# Altium footprint library Buzzer.PcbLib: 1 footprints
Each footprint in its own frame and in the unit in brackets; x right, y up, seen from the top. Pads: shape width x height; smd on the part's side, far side on the other; paste and mask are expansions set on the pad; w line width, h text height; cw(c..) or ccw(c..) is an arc to the next point about the centre after c.
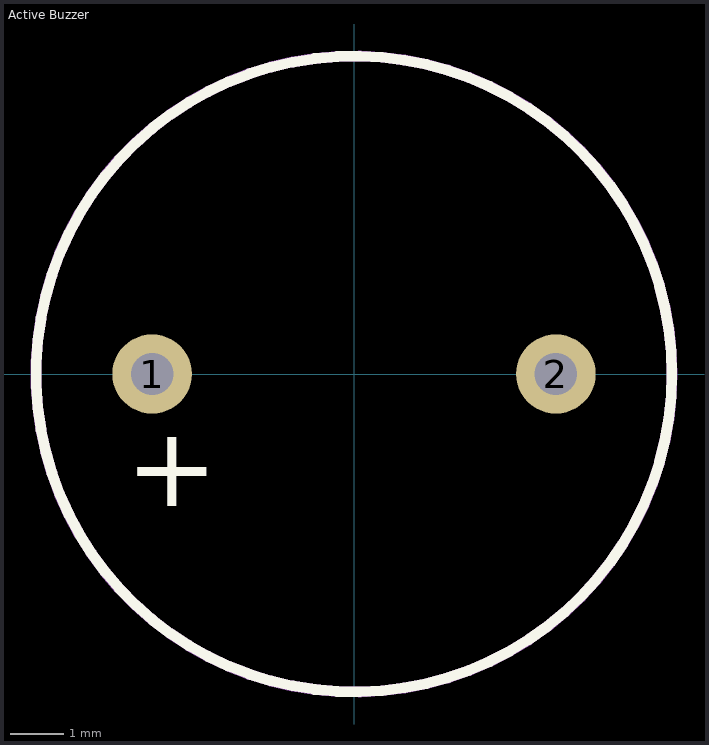
[diagram p0: the footprint, top view; thin cyan lines are the x and y axes]

## Active Buzzer [mm] "D12 H9.5 P7.62"
pads (2):
  round 1.5 hole 0.8: 1(-3.81,0) 2(3.81,0)
Top Overlay:
  circle w0.2: c0,0 r6
  text "+" at -4.306,-2.5 h1.52
Mechanical 13:
  circle w0.2: c0,0 r6
Mechanical 15:
  circle w0.2: c0,0 r6.005
3D body "buzzer.stp": height 9.5, standoff -5.5, extent -6,-5.999 5.997,6